# EAGLE library part IR2184S (library charleses_parts_bin)
IR2184 synchrec driver with built-in 500ns deadtime in SOIC8
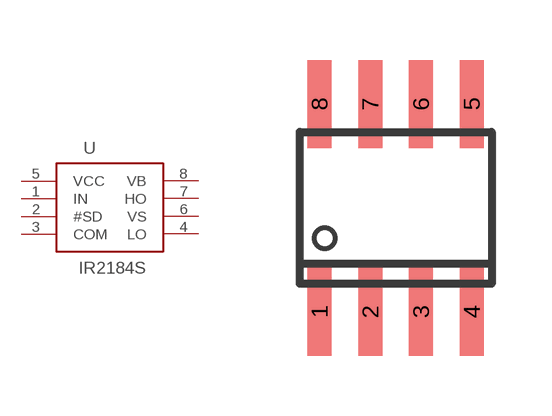
[diagram p4: symbol with the pads of SOIC8; footprint SOIC8]

Designator prefix -

## IR2184S  [SOIC8]
1  IN  pas
2  #SD  pas
3  COM  pwr
4  LO  pas
5  VCC  pwr
6  VS  pas
7  HO  pas
8  VB  pwr

## Footprint SOIC8 (pad centres in mm)
Small Outline IC
smd 0.6 x 2.2: 1 -1.905,-2.6; 2 -0.635,-2.6; 3 0.635,-2.6; 4 1.905,-2.6; 5 1.905,2.6; 6 0.635,2.6; 7 -0.635,2.6; 8 -1.905,2.6